# Altium footprint library SMB.PcbLib: 1 footprints
Each footprint in its own frame and in the unit in brackets; x right, y up, seen from the top. Pads: shape width x height; smd on the part's side, far side on the other; paste and mask are expansions set on the pad; w line width, h text height; cw(c..) or ccw(c..) is an arc to the next point about the centre after c.
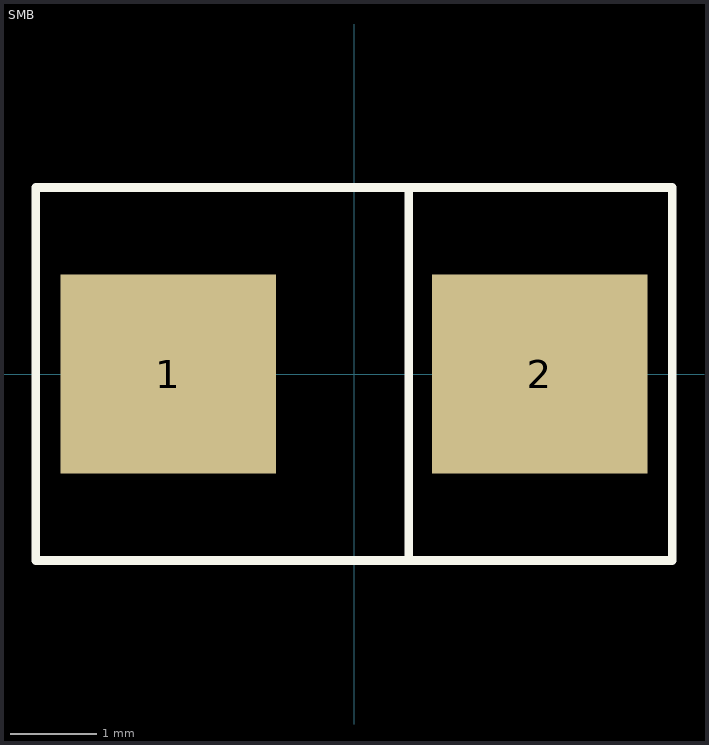
[diagram p0: the footprint, top view; thin cyan lines are the x and y axes]

## SMB [mm]
pads (2):
  rect 2.5x2.3 smd: 1(-2.15,0) 2(2.15,0)
Top Overlay:
  lines w0.1: 0.635,-2.159 0.635,2.159 ; -3.683,-2.159 3.683,-2.159 3.683,2.159 -3.683,2.159 -3.683,-2.159
3D body "SMB_DIO.step": height 2.45, standoff 0, extent -2.795,-1.97 2.795,1.97